# EAGLE library part TLV62595DMQR (library TLV62595DMQR)
Conv DC-DC 2.5V to 5.5V Synchronous Step Down Single-Out 0.6V to 4V 4A 6-Pin VSON-HR T/R Source: Datasheet <https://www.ti.com/lit/ds/symlink/tlv62595.pdf?HQS=dis-dk-null-digikeymode-dsf-pf-null-wwe&ts=1622796971373&ref_url=https%3A%2F%2Fwww.digikey.in%2F>
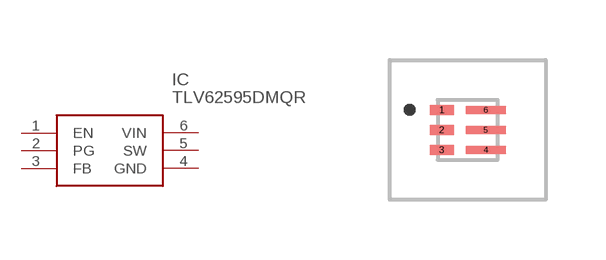
[diagram p0: symbol with the pads of TLV62595DMQR; footprint TLV62595DMQR]

Designator prefix IC

## TLV62595DMQR (Arrow_Part_Number: TLV62595DMQR; Arrow_Price-Stock: https://www.arrow.com/en/products/tlv62595dmqr/texas-instruments?region=nac; Description: Conv DC-DC 2.5V to 5.5V Synchronous Step Down Single-Out 0.6V to 4V 4A 6-Pin VSON-HR T/R; Height: 1mm; Manufacturer_Name: Texas Instruments; Manufacturer_Part_Number: TLV62595DMQR; Mouser_Part_Number: 595-TLV62595DMQR; Mouser_Price-Stock: https://www.mouser.co.uk/ProductDetail/Texas-Instruments/TLV62595DMQR?qs=IS%252B4QmGtzzrUF%252B1uc1ZRLQ%3D%3D)  [TLV62595DMQR]
1  EN
2  PG
3  FB
4  GND
5  SW
6  VIN

## Footprint TLV62595DMQR (pad centres in mm)
TLV62595DMQR-3
smd 0.6 x 0.25: 1 -0.65,0.5; 2 -0.65,0; 3 -0.65,-0.5
smd 1 x 0.2: 4 0.45,-0.5; 5 0.45,0; 6 0.45,0.5